# EAGLE library part NVJS4405NT1G (library NVJS4405NT1G)
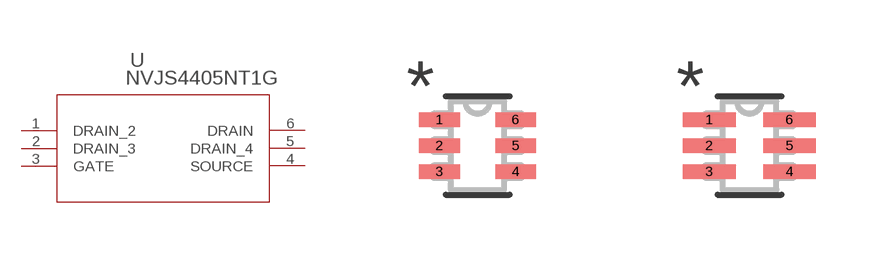
[diagram p0: symbol with the pads of SOT-363-6_2P2X1P35_ONS; footprints SOT-363-6_2P2X1P35_ONS, SOT-363-6_2P2X1P35_ONS-M]

Designator prefix U

## NVJS4405NT1GSOT-363-6_2P2X1P35_ONS (Copyright: Copyright (C) 2023 Ultra Librarian. All rights reserved.; Manufacturer_Part_Number: NVJS4405NT1G; Mfr_Name: onsemi)  [SOT-363-6_2P2X1P35_ONS]
1  DRAIN_2  pas
2  DRAIN_3  pas
3  GATE  pas
4  SOURCE  pas
5  DRAIN_4  pas
6  DRAIN  pas

## NVJS4405NT1GSOT-363-6_2P2X1P35_ONS-M (Copyright: Copyright (C) 2023 Ultra Librarian. All rights reserved.; Manufacturer_Part_Number: NVJS4405NT1G; Mfr_Name: onsemi)  [SOT-363-6_2P2X1P35_ONS-M]
Pads as for SOT-363-6_2P2X1P35_ONS

## NVJS4405NT1GSOT-363-6_2P2X1P35_ONS-L (Copyright: Copyright (C) 2023 Ultra Librarian. All rights reserved.; Manufacturer_Part_Number: NVJS4405NT1G; Mfr_Name: onsemi)  [SOT-363-6_2P2X1P35_ONS-L]
Pads as for SOT-363-6_2P2X1P35_ONS

## Footprint SOT-363-6_2P2X1P35_ONS (pad centres in mm)
smd 1.016 x 0.356: 1 -0.953,0.65; 2 -0.953,0; 3 -0.953,-0.65; 4 0.953,-0.65; 5 0.953,0; 6 0.953,0.65

## Footprint SOT-363-6_2P2X1P35_ONS-M (pad centres in mm)
smd 1.321 x 0.356: 1 -1.003,0.65; 2 -1.003,0; 3 -1.003,-0.65; 4 1.003,-0.65; 5 1.003,0; 6 1.003,0.65

## Footprint SOT-363-6_2P2X1P35_ONS-L (pad centres in mm)
smd 0.711 x 0.305: 1 -0.902,0.65; 2 -0.902,0; 3 -0.902,-0.65; 4 0.902,-0.65; 5 0.902,0; 6 0.902,0.65